# EAGLE library part LOGITECH_KBD_24_PIN_CONNECTOR (library logitech)
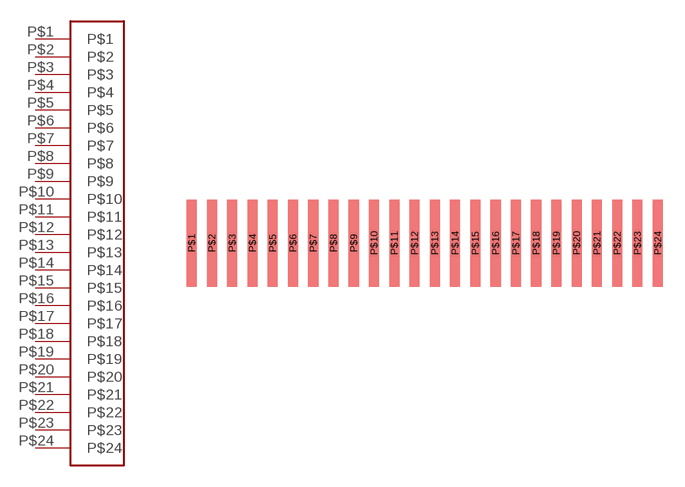
[diagram p0: symbol with the pads of LOGITECH_KBD_24_PIN_CONNECTOR; footprint LOGITECH_KBD_24_PIN_CONNECTOR]

Designator prefix -

## LOGITECH_KBD_24_PIN_CONNECTOR  [LOGITECH_KBD_24_PIN_CONNECTOR]
P$1  P$1
P$2  P$2
P$3  P$3
P$4  P$4
P$5  P$5
P$6  P$6
P$7  P$7
P$8  P$8
P$9  P$9
P$10  P$10
P$11  P$11
P$12  P$12
P$13  P$13
P$14  P$14
P$15  P$15
P$16  P$16
P$17  P$17
P$18  P$18
P$19  P$19
P$20  P$20
P$21  P$21
P$22  P$22
P$23  P$23
P$24  P$24

## Footprint LOGITECH_KBD_24_PIN_CONNECTOR (pad centres in mm)
smd 0.7 x 6: P$1 0,0; P$2 1.4,0; P$3 2.8,0; P$4 4.2,0; P$5 5.6,0; P$6 7,0; P$7 8.4,0; P$8 9.8,0; P$9 11.2,0; P$10 12.6,0; P$11 14,0; P$12 15.4,0; P$13 16.8,0; P$14 18.2,0; P$15 19.6,0; P$16 21,0; P$17 22.4,0; P$18 23.8,0; P$19 25.2,0; P$20 26.6,0; P$21 28,0; P$22 29.4,0; P$23 30.8,0; P$24 32.2,0